# EAGLE library part CPL-CON-MOD-RJ45 (library TinWhiskers - Copy)
Connector: Modular Jack (RJ-45); Datasheet: http://www.farnell.com/cad/1859325.pdf
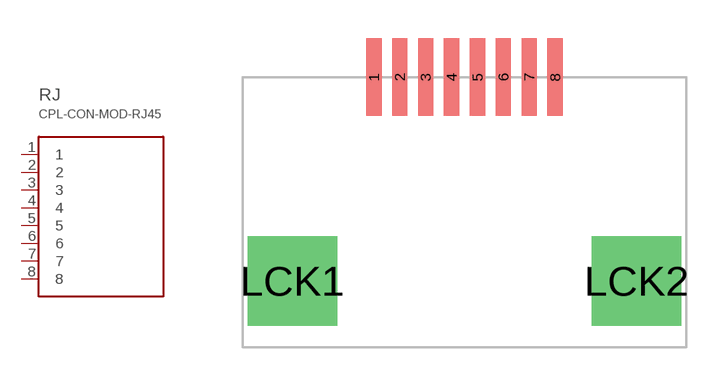
[diagram p16: symbol with the pads of CON-RJ45; footprint CON-RJ45]

Designator prefix RJ

## CPL-CON-MOD-RJ45  [CON-RJ45]
1  1
2  2
3  3
4  4
5  5
6  6
7  7
8  8

## Footprint CON-RJ45 (pad centres in mm)
Connector: RJ-45 Jack; Package: SMT Datasheet: http://www.farnell.com/cad/1859325.pdf
smd 0.6 x 3.05: 1 -3.556,0; 2 -2.54,0; 3 -1.524,0; 4 -0.508,0; 5 0.508,0; 6 1.524,0; 7 2.54,0; 8 3.556,0
drill 1.27 pad 3.5 square: LCK1 -6.75,-8; LCK2 6.75,-8